# Altium footprint library Rich Footprints.PcbLib: 155 footprints (part 10 of 10)
Each footprint in its own frame and in the unit in brackets; x right, y up, seen from the top. Pads: shape width x height; smd on the part's side, far side on the other; paste and mask are expansions set on the pad; w line width, h text height; cw(c..) or ccw(c..) is an arc to the next point about the centre after c.
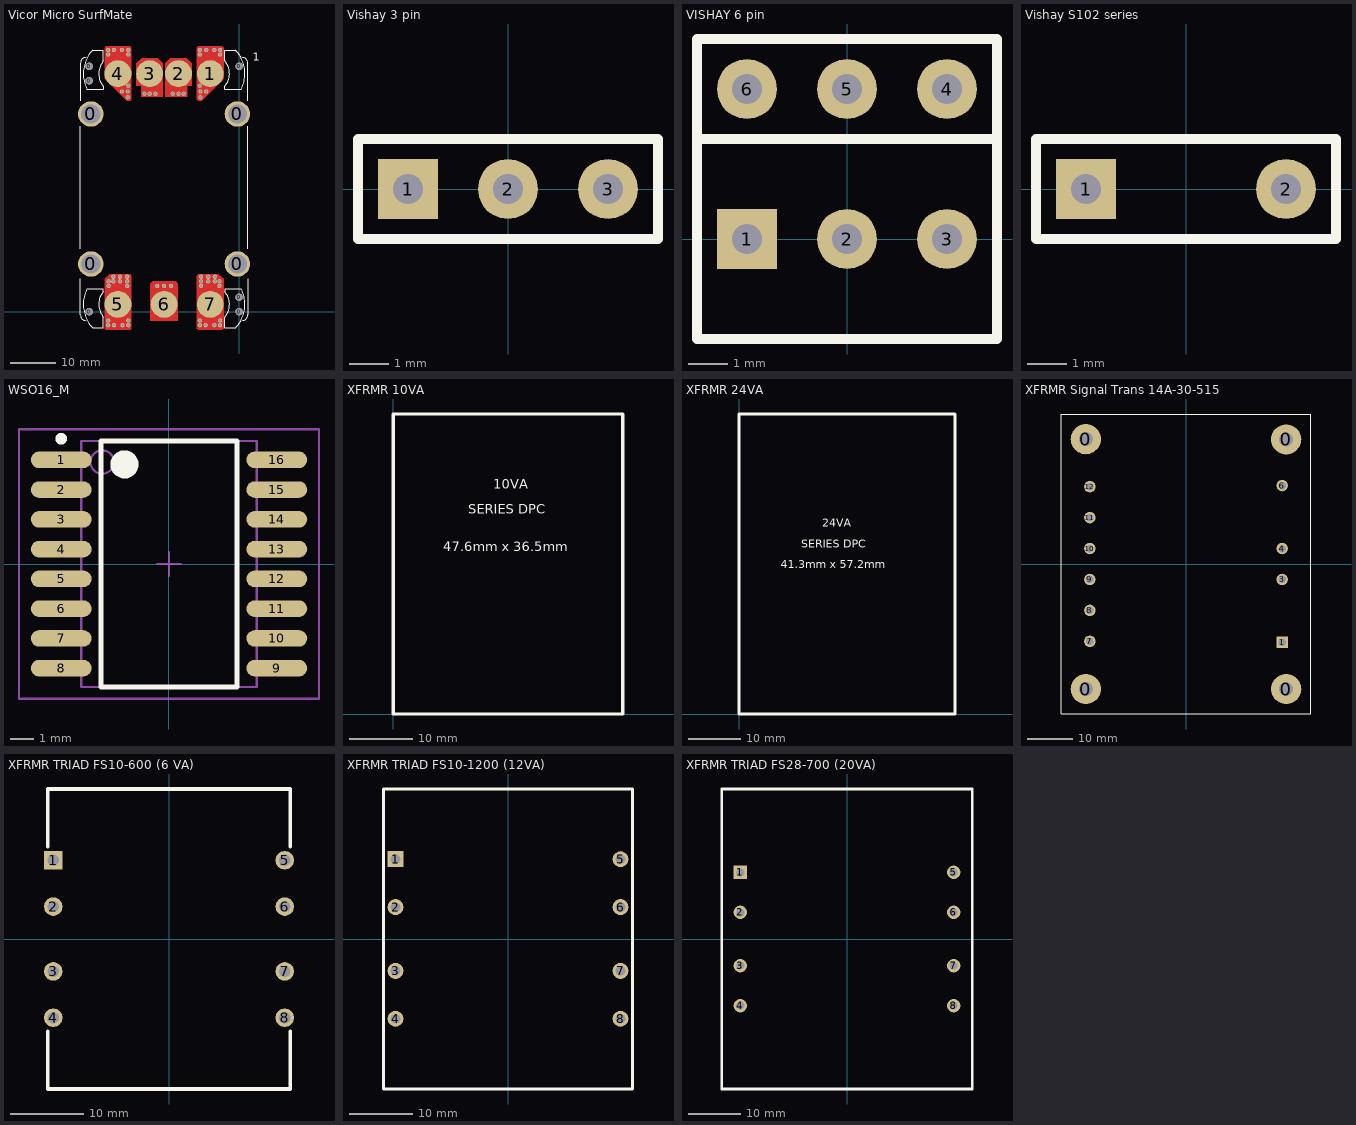
[diagram p9: the footprints below, top view; thin cyan lines are the x and y axes]

## Vicor Micro SurfMate [mil] "Vicor Microbrick with SurfMate sockets"
pads (76):
  round 64 hole 64 unplated: 0(-1300,0) 0(-1300,2001) 0(-1300,2126) 0(0,0) 0(0,125) 0(0,2126)
  round 220.47 hole 166.14: 0(-1285,413) 0(-1285,1713) 0(-15,413) 0(-15,1713)
  round 37 hole 27 mask+0: 1(-340,1958) 1(-340,2228) 1(-340,2268) 1(-335,1858) 1(-335,1908) 1(-285,1908) 1(-285,2268) 1(-215,2268) 2(-575,1888) 2(-525,1888) 2(-480,1888) 3(-820,1888) 3(-775,1888) 3(-725,1888) 4(-1085,2268) 4(-1015,1908) 4(-1015,2268) 4(-965,1858) 4(-965,1908) 4(-960,1958) 4(-960,2228) 4(-960,2268) 5(-1135,-117) 5(-1135,-77) 5(-1130,223) 5(-1130,263) 5(-1090,263) 5(-1090,303) 5(-1085,-117) 5(-1032.5,263) 5(-1032.5,303) 5(-1010,-117) 5(-970,223) 5(-970,263) 5(-970,303) 5(-960,-117) 5(-960,-77) 6(-710,223) 6(-650,223) 6(-590,223) 7(-340,-117) 7(-340,-77) 7(-330,223) 7(-330,263) 7(-330,303) 7(-290,-117) 7(-267.5,263) 7(-267.5,303) 7(-215,-117) 7(-210,263) 7(-210,303) 7(-170,223) 7(-170,263) 7(-165,-117) 7(-165,-77)
  round 233 / inner round 25 / far side round 25 hole 16 unplated: 1(-250,2063) 2(-525,2063) 3(-775,2063) 4(-1050,2063) 5(-1050,63) 6(-650,63) 7(-250,63)
  round 37 hole 27 paste+0 mask+0: 1(-165,2228) 1(-165,2268) 4(-1135,2228) 4(-1135,2268)
Top Layer:
  region: -145,-157 -135,-147 -135,283 -180,323 -355,323 -365,313 -365,-147 -355,-157
  region: -770,-77 -770,243 -750,263 -550,263 -530,243 -530,-77
  region: -1155,-157 -1165,-147 -1165,283 -1120,323 -945,323 -935,313 -935,-147 -945,-157
  region: -325,1828 -135,2018 -135,2288 -145,2298 -355,2298 -365,2288 -365,1838 -355,1828
  region: -640,1863 -640,2153 -595,2198 -455,2198 -410,2153 -410,1958 -450,1958 -450,1863
  region: -660,1863 -660,2153 -705,2198 -845,2198 -890,2153 -890,1958 -850,1958 -850,1863
  region: -975,1828 -1165,2018 -1165,2288 -1155,2298 -945,2298 -935,2288 -935,1838 -945,1828
Top Overlay:
  lines w10: -1375,286 -1375,-27 ccw(c-1325,-27) -1325,-77 ; -1375,546 -1375,1606 ; -1375,1826 -1375,2153 cw(c-1325,2153) -1325,2203 ; 25,-77 ccw(c25,-27) 75,-27 75,286 ; 25,2203 cw(c25,2153) 75,2153 75,1826 ; 75,546 75,1606 ; -1318.33,197.16 ccw(c-1050,63) -1269.48,-141.52 -1176.04,-140 -1176.04,-46.56 cw(c-1050,63) -1177.49,170.87 -1177,198 -1318.33,197.16 ; -1318.33,1928.84 cw(c-1050,2063) -1269.48,2267.52 -1176.04,2266 -1176.04,2172.56 ccw(c-1050,2063) -1177.49,1955.13 -1177,1928 -1318.33,1928.84 ; -123.96,-140 -30.52,-141.52 ccw(c-250,63) 18.33,197.16 -123,198 -122.51,170.87 cw(c-250,63) -123.96,-46.56 -123.96,-140 ; -123.96,2172.56 cw(c-250,2063) -122.51,1955.13 -123,1928 18.33,1928.84 ccw(c-250,2063) -30.52,2267.52 -123.96,2266 -123.96,2172.56
  text "1" at 120,2172.56 h70
Top Paste:
  region: -135,243 -365,243 -365,-97 -135,-97
  rectangle: -1165,-97 -935,243
  rectangle: -770,-77 -530,203
  rectangle: -640,1923 -410,2198
  rectangle: -890,1923 -660,2198
  rectangle: -365,1903 -135,2218
  rectangle: -1165,1903 -935,2218
Top Solder:
  region: -1035,1881 -1165,2011 -1165,2288 -1155,2298 -935,2298 -935,1881 -850,1881 -850,1958 -890,1958 -890,2153 -845,2198 -705,2198 -660,2153 -640,2153 -595,2198 -455,2198 -410,2153 -410,1958 -450,1958 -450,1881 -365,1881 -365,2288 -360,2293 -140,2293 -140,2023 -135,2018 -270,1883 -270,1881 15,1881 95,1961 95,2241 20,2316 -1290,2316 -1365,2236 -1365,1951 -1280,1881
  region: -135,250 15,250 55,210 55,-150 15,-190 -1355,-190 -1405,-140 -1405,200 -1355,250 -1165,250 -1165,-147 -1155,-157 -945,-157 -935,-147 -935,250 -775,250 -775,-80 -525,-80 -525,250 -365,250 -365,-147 -355,-157 -145,-157 -135,-147

## Vishay 3 pin [mil] "Matched pair"
height 320
pads (3):
  rect 60x60 hole 30: 1(-100,0)
  round 60 hole 30: 2(0,0) 3(100,0)
Top Overlay:
  lines w10: -150,-50 -150,50 150,50 150,-50 -150,-50

## VISHAY 6 pin [mil]
height 375
pads (6):
  rect 60x60 hole 30: 1(-100,0)
  round 60 hole 30: 2(0,0) 3(100,0) 4(100,150) 5(0,150) 6(-100,150)
Top Overlay:
  lines w10: -150,100 -150,200 150,200 150,100 ; -150,100 -150,-100 150,-100 150,100 ; -150,100 150,100

## Vishay S102 series [mil] "Matched pair"
height 320
pads (2):
  rect 60x60 hole 30: 1(-100,0)
  round 60 hole 30: 2(100,0)
Top Overlay:
  lines w10: -150,-50 -150,50 150,50 150,-50 -150,-50

## WSO16_M [mm] "SOIC, 16-Leads, Body 10.3x7.5mm, Pitch 1.27mm, IPC Low Density"
height 2.65
pads (16):
  oval 2.6x0.7 smd: 1(-4.6,4.445) 2(-4.6,3.175) 3(-4.6,1.905) 4(-4.6,0.635) 5(-4.6,-0.635) 6(-4.6,-1.905) 7(-4.6,-3.175) 8(-4.6,-4.445) 9(4.6,-4.445) 10(4.6,-3.175) 11(4.6,-1.905) 12(4.6,-0.635) 13(4.6,0.635) 14(4.6,1.905) 15(4.6,3.175) 16(4.6,4.445)
Top Overlay:
  circle w0.6: c-1.9,4.25 r0.3
  circle w0.25: c-4.6,5.345 r0.125
  lines w0.2: -2.9,-5.25 2.9,-5.25 2.9,5.25 -2.9,5.25 -2.9,-5.25
Mechanical 13:
  circle w0.1: c-2.85,4.35 r0.5
  lines w0.1: -3.75,-5.25 3.75,-5.25 3.75,5.25 -3.75,5.25 -3.75,-5.25
Mechanical 15:
  lines w0.1: -0.5,0 0.5,0 ; 0,-0.5 0,0.5 ; -6.4,-5.75 6.4,-5.75 6.4,5.75 -6.4,5.75 -6.4,-5.75
3D body: height 2.65, standoff 0, extent -3.75,-5.25 3.75,5.25

## XFRMR 10VA [mm]
Top Overlay:
  lines w0.508: 0,0 0,47.498 36.322,47.498 36.322,0 0,0
  text "10VA" at 15.85,35.662 h1.52
  text "SERIES DPC" at 11.887,31.699 h1.52
  text "47.6mm x 36.5mm" at 7.925,25.756 h1.52

## XFRMR 24VA [mm]
Top Overlay:
  lines w0.508: 0,0 0,57.15 41.148,57.15 41.148,0 0,0
  text "41.3mm x 57.2mm" at 7.925,27.737 h1.52
  text "SERIES DPC" at 11.887,31.699 h1.52
  text "24VA" at 15.85,35.662 h1.52

## XFRMR Signal Trans 14A-30-515 [mil] "Siganl Trans One-4-All Triple Output 30VA"
height 39.7
pads (14):
  round 263.78 hole 122.05 unplated: 0(-875,-1092) 0(-875,1090) 0(875,-1092) 0(875,1088)
  rect 100x100 hole 65: 1(840,-685)
  round 100 hole 65: 3(840,-135) 4(840,135) 6(840,685) 7(-840,-675) 8(-840,-405) 9(-840,-135) 10(-840,135) 11(-840,405) 12(-840,675)
Top Overlay:
  lines w10: -1090,-1310 1090,-1310 1090,1310 -1090,1310 -1090,-1310

## XFRMR TRIAD FS10-600 (6 VA) [mil] "TRANSFORMER, 6VA, 5V @ 1.2 A"
pads (8):
  rect 100x100 hole 60: 1(-625,425)
  round 100 hole 60: 2(-625,175) 3(-625,-175) 4(-625,-425) 5(625,425) 6(625,175) 7(625,-175) 8(625,-425)
Top Overlay:
  lines w20: -655,-500 -655,-810 655,-810 655,-500 ; -655,500 -655,810 655,810 655,500

## XFRMR TRIAD FS10-1200 (12VA) [mil] "TRANSFORMER, 12 VA, 5V @ 2.4A"
pads (8):
  rect 100x100 hole 60: 1(-705,500)
  round 100 hole 60: 2(-705,200) 3(-705,-200) 4(-705,-500) 5(705,500) 6(705,200) 7(705,-200) 8(705,-500)
Top Overlay:
  lines w20: -780,-940 -780,940 780,940 780,-940 -780,-940

## XFRMR TRIAD FS28-700 (20VA) [mil] "TRANSFORMER, 20VA 28VCT @ 0.7A"
pads (8):
  rect 100x100 hole 60: 1(-800,500)
  round 100 hole 60: 2(-800,200) 3(-800,-200) 4(-800,-500) 5(800,500) 6(800,200) 7(800,-200) 8(800,-500)
Top Overlay:
  lines w20: -940,-1125 940,-1125 940,1125 -940,1125 -940,-1125